# Altium footprint library 881545-1.PcbLib: 1 footprints
Each footprint in its own frame and in the unit in brackets; x right, y up, seen from the top. Pads: shape width x height; smd on the part's side, far side on the other; paste and mask are expansions set on the pad; w line width, h text height; cw(c..) or ccw(c..) is an arc to the next point about the centre after c.

## 881545-1 [mm]
3D body "881545-1.STEP": height 10.89, standoff 0, extent -2.515,-1.245 2.515,1.245